# EAGLE library part L78L05ABD (library ST_Microelctronics_By_element14_Batch_1)
POSITIVE VOLTAGE REGULATORS
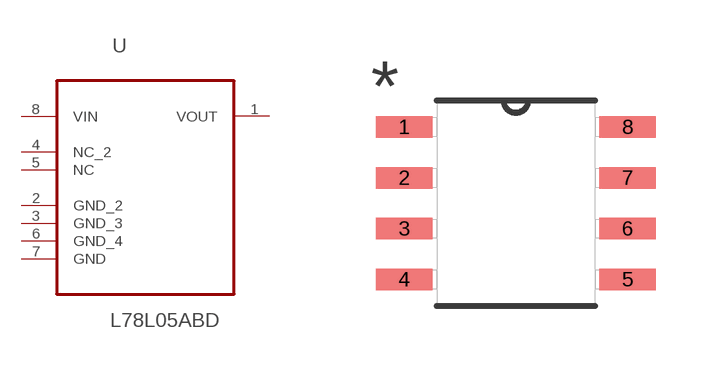
[diagram p53: symbol with the pads of SOIC127P600X175-8N; footprint SOIC127P600X175-8N]

Designator prefix U

## L78L05ABD (MPN: L78L05ABD; OC_FARNELL: 1087098; OC_NEWARK: -; PACKAGE: 8-SOIC; SUPPLIER: STMICROELECTRONICS)  [SOIC127P600X175-8N]
1  VOUT  out
2  GND_2  pas
3  GND_3  pas
4  NC_2  nc
5  NC  nc
6  GND_4  pas
7  GND  pas
8  VIN  pwr

## Footprint SOIC127P600X175-8N (pad centres in mm)
smd 1.422 x 0.533: 1 -2.794,1.905; 2 -2.794,0.635; 3 -2.794,-0.635; 4 -2.794,-1.905; 5 2.794,-1.905; 6 2.794,-0.635; 7 2.794,0.635; 8 2.794,1.905